# EAGLE library part 5569262-1 (library parts)
Stacked Modular Jacks
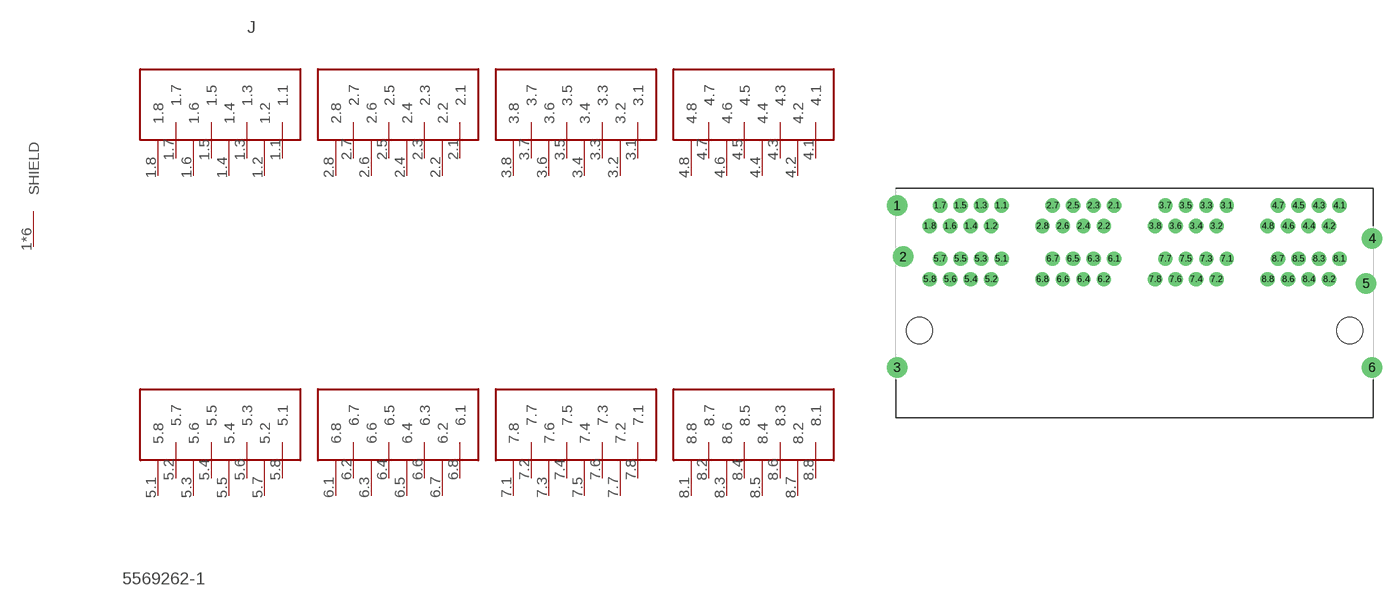
[diagram p1: symbol with the pads of TE_5569262-1; footprint TE_5569262-1]

Designator prefix J

## 5569262-1 (AVAILABILITY: Unavailable; CENTERLINE_PITCH: 1.02 mm[.04 in]; COMMENT: 5569262-1; DESCRIPTION: Conn RJ-45 F 64 POS 2.54mm Solder RA Thru-Hole 64 Terminal 8 Port Cat 5 Tray; EU_ROHS_COMPLIANCE: Compliant; MF: TE Connectivity; MP: 5569262-1; NUMBER_OF_POSITIONS: 8; PACKAGE: None; PRICE: None)  [TE_5569262-1]
1  SHIELD
1.1  1.1  pas
1.2  1.2  pas
1.3  1.3  pas
1.4  1.4  pas
1.5  1.5  pas
1.6  1.6  pas
1.7  1.7  pas
1.8  1.8  pas
2  SHIELD
2.1  2.1  pas
2.2  2.2  pas
2.3  2.3  pas
2.4  2.4  pas
2.5  2.5  pas
2.6  2.6  pas
2.7  2.7  pas
2.8  2.8  pas
3  SHIELD
3.1  3.1  pas
3.2  3.2  pas
3.3  3.3  pas
3.4  3.4  pas
3.5  3.5  pas
3.6  3.6  pas
3.7  3.7  pas
3.8  3.8  pas
4  SHIELD
4.1  4.1  pas
4.2  4.2  pas
4.3  4.3  pas
4.4  4.4  pas
4.5  4.5  pas
4.6  4.6  pas
4.7  4.7  pas
4.8  4.8  pas
5  SHIELD
5.1  5.8  pas
5.2  5.7  pas
5.3  5.6  pas
5.4  5.5  pas
5.5  5.4  pas
5.6  5.3  pas
5.7  5.2  pas
5.8  5.1  pas
6  SHIELD
6.1  6.8  pas
6.2  6.7  pas
6.3  6.6  pas
6.4  6.5  pas
6.5  6.4  pas
6.6  6.3  pas
6.7  6.2  pas
6.8  6.1  pas
7.1  7.8  pas
7.2  7.7  pas
7.3  7.6  pas
7.4  7.5  pas
7.5  7.4  pas
7.6  7.3  pas
7.7  7.2  pas
7.8  7.1  pas
8.1  8.8  pas
8.2  8.7  pas
8.3  8.6  pas
8.4  8.5  pas
8.5  8.4  pas
8.6  8.3  pas
8.7  8.2  pas
8.8  8.1  pas

## Footprint TE_5569262-1 (pad centres in mm)
drill 1.575 pad 2.54: 1 -29.464,15.49; 2 -28.702,9.144; 3 -29.464,-4.572; 4 29.464,11.43; 5 28.702,5.842; 6 29.464,-4.572
drill 0.97 pad 1.778: 1.1 -16.51,15.49; 1.2 -17.78,12.95; 1.3 -19.05,15.49; 1.4 -20.32,12.95; 1.5 -21.59,15.49; 1.6 -22.86,12.95; 1.8 -25.4,12.95; 2.1 -2.54,15.49; 2.2 -3.81,12.95; 2.3 -5.08,15.49; 2.4 -6.35,12.95; 2.5 -7.62,15.49; 2.6 -8.89,12.95; 2.7 -10.16,15.49; 2.8 -11.43,12.95; 3.1 11.43,15.49; 3.2 10.16,12.95; 3.3 8.89,15.49; 3.4 7.62,12.95; 3.5 6.35,15.49; 3.6 5.08,12.95; 3.7 3.81,15.49; 3.8 2.54,12.95; 4.1 25.4,15.49; 4.2 24.13,12.95; 4.3 22.86,15.49; 4.4 21.59,12.95; 4.5 20.32,15.49; 4.6 19.05,12.95; 4.7 17.78,15.49; 4.8 16.51,12.95; 5.1 -16.51,8.89; 5.2 -17.78,6.35; 5.3 -19.05,8.89; 5.4 -20.32,6.35; 5.5 -21.59,8.89; 5.6 -22.86,6.35; 5.7 -24.13,8.89; 5.8 -25.4,6.35; 6.1 -2.54,8.89; 6.2 -3.81,6.35; 6.3 -5.08,8.89; 6.4 -6.35,6.35; 6.5 -7.62,8.89; 6.6 -8.89,6.35; 6.7 -10.16,8.89; 6.8 -11.43,6.35; 7.1 11.43,8.89; 7.2 10.16,6.35; 7.3 8.89,8.89; 7.4 7.62,6.35; 7.5 6.35,8.89; 7.6 5.08,6.35; 7.7 3.81,8.89; 7.8 2.54,6.35; 8.1 25.4,8.89; 8.2 24.13,6.35; 8.3 22.86,8.89; 8.4 21.59,6.35; 8.5 20.32,8.89; 8.6 19.05,6.35; 8.7 17.78,8.89; 8.8 16.51,6.35
drill 0.965 pad 1.778: 1.7 -24.13,15.49
hole 3.251 at -26.67,0
hole 3.251 at 26.67,0